# EAGLE library part M05X2X1.27 (library badge)
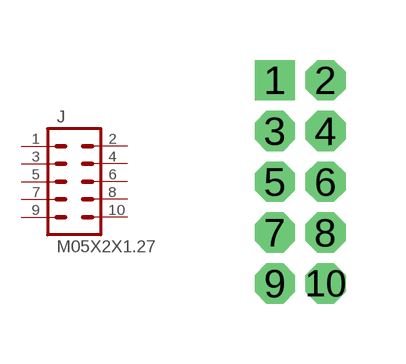
[diagram p2: symbol with the pads of 2X5X1.27; footprint 2X5X1.27]

Designator prefix J

## M05X2X1.27  [2X5X1.27]
1  1  pas
2  2  pas
3  3  pas
4  4  pas
5  5  pas
6  6  pas
7  7  pas
8  8  pas
9  9  pas
10  10  pas

## Footprint 2X5X1.27 (pad centres in mm)
drill 0.5 square: 1 0,0
drill 0.5 octagon: 2 1.27,0; 3 0,-1.27; 4 1.27,-1.27; 5 0,-2.54; 6 1.27,-2.54; 7 0,-3.81; 8 1.27,-3.81; 9 0,-5.08; 10 1.27,-5.08